# EAGLE library part 643220100408 (library WR-CIRC)
WR-CIRCM12 Screw Mating Panel Connector PCB Male Plastic PG9 Kind Properties Gender Female Packaging Properties Packaging Tray Electrical Properties IR 2 A; 5 A Working Voltage 30 V; 60 V; 250 V Withstanding Voltage 650 V (AC); 1000 V (AC); 1400 V (AC) Contact Resistance Initial 10 mΩ RISO 100 MΩ General Information Durability 100 Mating cycles Ingress Protection Code IP68 Operating Temperature -40 up to +90 °C Material Properties Insulator Material PA66 Insulator Flammability Rating UL94 V-0 Insulator Color Black Contact Material Copper Alloy Contact Plating Gold <https://www.we-online.com/components/media/o722375v209%20family-wr-circm12-6432201004xx.jpg> Details see: www.we-online.com/en/components/products/WR-CIRCM12_PANEL_CONNECTOR_PCB_FEMALE_PLASTIC_M16 Created by Ella 2023-11-30 2023 (C) Würth Elektronik
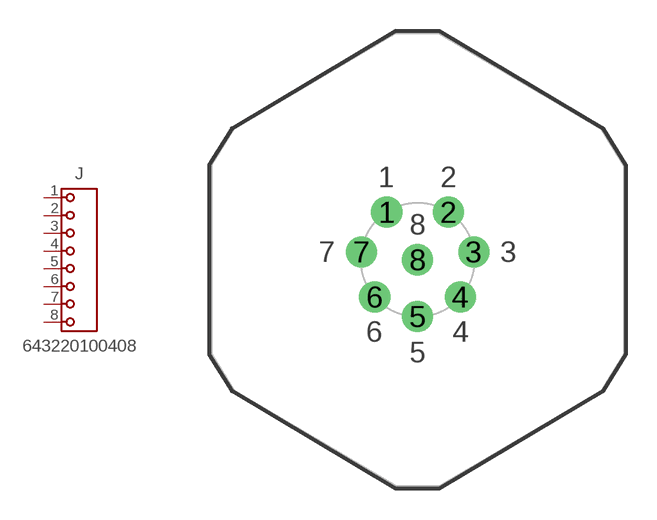
[diagram p3: symbol with the pads of 643220100408; footprint 643220100408]

Designator prefix J

## 643220100408 (DATASHEET-URL: https://www.we-online.com/redexpert/spec/643220100408?ae; GENDER: Female; MOUNT: THT; PART-NUMBER: 643220100408; POLARITY: 8; RATED-CURRENT: 2A; VALUE: 643220100408; WITHSTANDING-VOLTAGE: 650V; WORKING-VOLTAGE: 30V)  [643220100408]
1  1  pas
2  2  pas
3  3  pas
4  4  pas
5  5  pas
6  6  pas
7  7  pas
8  8  pas

## Footprint 643220100408 (pad centres in mm)
WR-CIRCM12 Screw Mating Panel Connector PCB Male Plastic PG9 THT, 8pins
drill 1: 1 -1.498,2.306; 2 1.498,2.306; 3 2.723,0.383; 4 2.075,-1.804; 5 0,-2.75; 6 -2.075,-1.804; 7 -2.723,0.383; 8 0,0